# Altium footprint library Misc.TH.PcbLib: 66 footprints (part 5 of 5)
Each footprint in its own frame and in the unit in brackets; x right, y up, seen from the top. Pads: shape width x height; smd on the part's side, far side on the other; paste and mask are expansions set on the pad; w line width, h text height; cw(c..) or ccw(c..) is an arc to the next point about the centre after c.
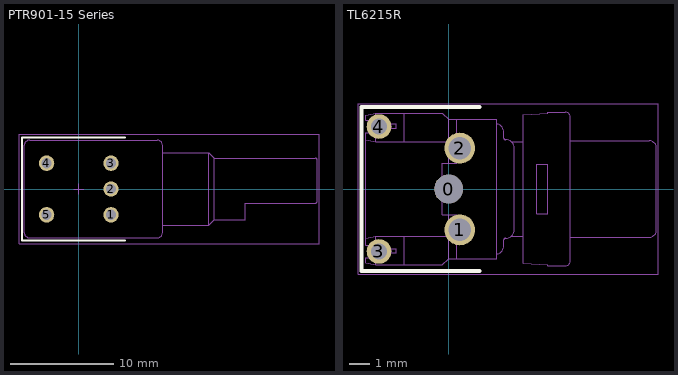
[diagram p4: the footprints below, top view; thin cyan lines are the x and y axes]

## PTR901-15 Series [mm] "Bourns PTR901 Series Potentiometer, 15mm Shaft"
height 11.3
pads (5):
  round 1.5 hole 1: 1(3.125,-2.5) 2(3.125,0) 3(3.125,2.5) 4(-3.125,2.5) 5(-3.125,-2.5)
Top Overlay:
  lines w0.2: 4.5,-5 -5.5,-5 -5.5,5 4.5,5
Mechanical 1:
  lines w0.05: 8.125,-3.5 12.625,-3.5 ; 8.125,3.5 12.625,3.5 ; 12.625,-3.5 13.125,-3 ; 12.625,-3.5 12.625,3.5 ; 12.625,3.5 13.125,3 ; 13.125,-3 16.125,-3 16.125,-1.375 22.925,-1.375 ccw(c22.925,-1.183) 22.935,-1.374 ccw(c22.925,-1.181) 22.943,-1.374 ccw(c22.925,-1.179) 22.951,-1.373 ccw(c22.924,-1.177) 22.959,-1.371 ccw(c22.924,-1.175) 22.968,-1.37 ccw(c22.924,-1.173) 22.977,-1.368 ccw(c22.923,-1.171) 22.987,-1.365 ccw(c22.922,-1.169) 23,-1.359 ccw(c22.922,-1.168) 23.036,-1.34 ccw(c22.924,-1.171) 23.043,-1.336 ccw(c22.925,-1.172) 23.048,-1.332 ccw(c22.926,-1.174) 23.052,-1.329 ccw(c22.928,-1.176) 23.056,-1.326 ccw(c22.929,-1.177) 23.059,-1.323 ccw(c22.93,-1.179) 23.062,-1.32 ccw(c22.932,-1.18) 23.065,-1.318 ccw(c22.933,-1.182) 23.067,-1.315 ccw(c22.934,-1.183) 23.07,-1.313 23.072,-1.31 23.072,-1.31 ccw(c22.925,-1.174) 23.125,-1.184 ccw(c22.927,-1.175) 23.125,-1.175 23.125,2.8 ccw(c22.925,2.8) 22.925,3 13.125,3 ; 13.125,-3 13.125,3 ; -5.275,-4.25 ccw(c-4.775,-4.25) -4.775,-4.75 7.625,-4.75 ccw(c7.625,-4.25) 8.125,-4.25 8.125,4.25 ccw(c7.625,4.25) 7.625,4.75 -4.775,4.75 ccw(c-4.775,4.25) -5.275,4.25 -5.275,-4.25
Mechanical 15:
  lines w0.05: -5.8,-5.3 -5.8,5.3 23.3,5.3 23.3,-5.3 -5.8,-5.3
  lines w0.1: -0.5,0 0.5,0 ; 0,-0.5 0,0.5
3D body "PTR901-15.STEP": height 11.3, standoff -2.5, extent -5.275,-4.75 23.125,4.75

## TL6215R [mm] "TL6215 Tactile Switch, Right Angle"
height 6.5
pads (5):
  round 1.4 hole 1.4 unplated: 0(0,0)
  round 1.5 hole 1.1: 1(0.55,-2) 2(0.55,2)
  round 1.2 hole 0.8: 3(-3.4,-3.05) 4(-3.4,3.05)
Top Overlay:
  lines w0.2: 1.5,-4 -4.25,-4 -4.25,4 1.5,4
Mechanical 1:
  drawing of 151 lines, arcs and shapes, not listed
Mechanical 15:
  lines w0.05: -4.425,-4.175 -4.425,4.175 10.225,4.175 10.225,-4.175 -4.425,-4.175
  lines w0.1: -0.5,0 0.5,0 ; 0,-0.5 0,0.5
3D body "TL6215R.STEP": height 7.2, standoff -2.95, extent -4.05,-3.846 10.15,3.846